# Altium schematic symbol library APX812-29UG7.SchLib: 1 symbol
Pins are listed as number, name and electrical type; pins without a type are passive.

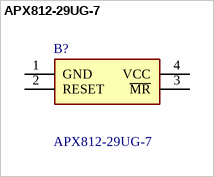
[diagram p0: symbol APX812-29UG-7]

## APX812-29UG-7
designator B?
Supervisor Push-Pull, Totem Pole 1 Channel SOT-143 , 2.93V , 140ms , -40C ~ 85C (TA); Manufacturer_Name: Diodes Incorporated; Geometry.Height: 1.1mm; Manufacturer_Part_Number: APX812-29UG-7; Mouser Part Number: 621-APX812-29UG-7; Mouser Price/Stock: https://www.mouser.co.uk/ProductDetail/Diodes-Incorporated/APX812-29UG-7?qs=uwE%252BXfKqZqTVBV%252BbZr8J2A%3D%3D; Arrow Part Number: APX812-29UG-7; Arrow Price/Stock: https://www.arrow.com/en/products/apx812-29ug-7/diodes-incorporated; Datasheet Link: https://www.diodes.com//assets/Datasheets/APX811_812.pdf
footprint APX81229UG7
pins: 1 GND, 2 RESET, 3 ~{MR}, 4 VCC